# Altium schematic symbol library Wuerth_Elektronik_151051RS11000.SchLib: 1 symbol
Pins are listed as number, name and electrical type; pins without a type are passive.

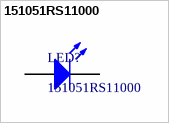
[diagram p0: symbol 151051RS11000]

## 151051RS11000
designator LED?
THT LED round mono-color color lens, WL-TMRW, Red; Manufacturer: Wuerth Elektronik; ComponentLink1Description: Manufacturer URL; ComponentLink2Description: Datasheet; ComponentLink1URL: http://www.we-online.com; ComponentLink2URL: http://katalog.we-online.de/pbs/datasheet/7448042001.pdfhttp://katalog.we-online.de/pbs/datasheet/7448042001.pdfhttp://katalog.we-online.de/pbs/datasheet/7448042001.pdfhttp://katalog.we-online.de/pbs/datasheet/151051RS11000.pdf; Emitting color: Red; PartNumber: 151051RS11000; PackageReference: Type 5mm
footprint Type 5mm
pins: 1 K, 2 A